# Altium footprint library con-micromatch.PcbLib: 1 footprints
Each footprint in its own frame and in the unit in brackets; x right, y up, seen from the top. Pads: shape width x height; smd on the part's side, far side on the other; paste and mask are expansions set on the pad; w line width, h text height; cw(c..) or ccw(c..) is an arc to the next point about the centre after c.
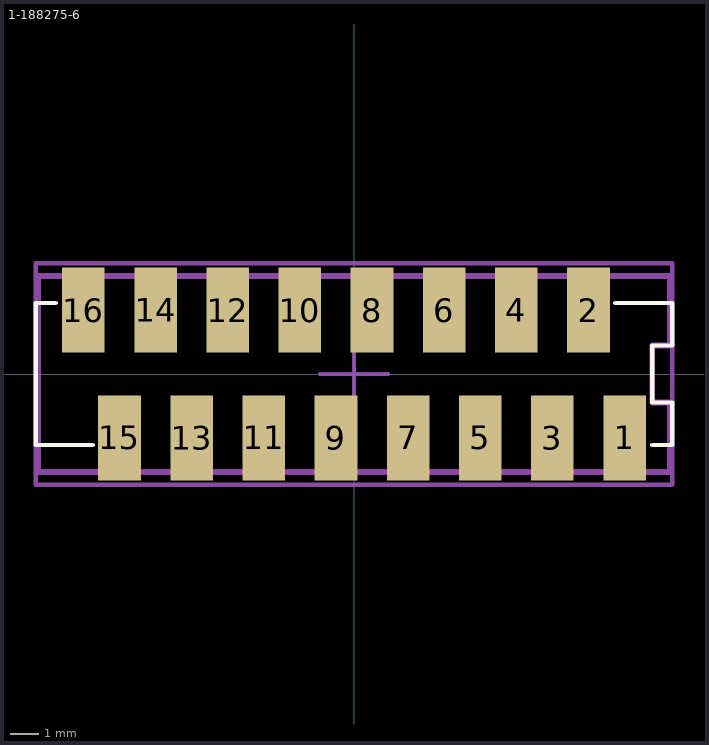
[diagram p0: the footprint, top view; thin cyan lines are the x and y axes]

## 1-188275-6 [mm] "MICRO-MATCH SMD FTE"
height 5.3
pads (16):
  rect 1.5x3 smd: 1(9.525,-2.25) 2(8.255,2.25) 3(6.985,-2.25) 4(5.715,2.25) 5(4.445,-2.25) 6(3.175,2.25) 7(1.905,-2.25) 8(0.635,2.25) 9(-0.635,-2.25) 10(-1.905,2.25) 11(-3.175,-2.25) 12(-4.445,2.25) 13(-5.715,-2.25) 14(-6.985,2.25) 15(-8.255,-2.25) 16(-9.525,2.25)
Top Overlay:
  lines w0.15: -10.5,2.5 -11.2,2.5 -11.2,-2.5 -9.2,-2.5 ; 9.2,2.5 11.2,2.5 11.2,1 10.5,1 10.5,-1 11.2,-1 11.2,-2.5 10.5,-2.5
Top Assembly (Mech3):
  circle w0.2: c9.525,-2.25 r0.594
  lines w0.2: -11.125,-3.45 11.125,-3.45 11.125,-1 10.5,-1 10.5,1 11.125,1 11.125,3.45 -11.125,3.45 -11.125,-3.45
Top Courtyard:
  lines w0.15: -1.2,0 0,0 ; 0,-1.2 0,0 ; 0,1.2 0,0 ; 1.2,0 0,0 ; -11.2,-3.9 -11.2,3.9 11.2,3.9 11.2,-3.9 -11.2,-3.9
3D body "c-1-188275-6-u-3d.stp": height 5.25, standoff 0, extent -11.125,-3.45 11.125,3.45